# Altium footprint library ABM8G-25.000MHZ-B4Y-T.PcbLib: 1 footprints
Each footprint in its own frame and in the unit in brackets; x right, y up, seen from the top. Pads: shape width x height; smd on the part's side, far side on the other; paste and mask are expansions set on the pad; w line width, h text height; cw(c..) or ccw(c..) is an arc to the next point about the centre after c.
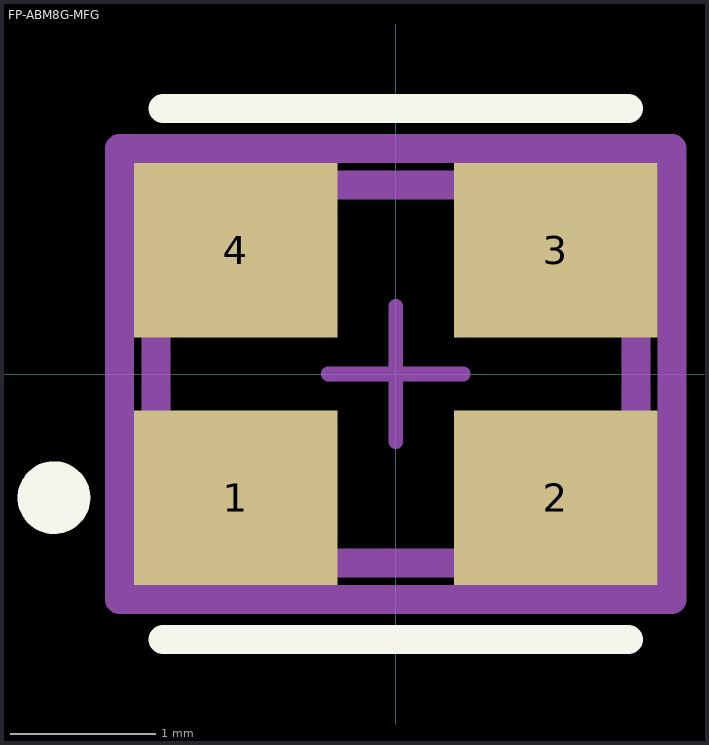
[diagram p0: the footprint, top view; thin cyan lines are the x and y axes]

## FP-ABM8G-MFG [mm]
pads (4):
  rect 1.4x1.2 smd paste+0 mask+0: 1(-1.1,-0.85) 2(1.1,-0.85) 3(1.1,0.85) 4(-1.1,0.85)
Top Overlay:
  circle w0.25: c-2.35,-0.85 r0.125
  lines w0.2: -1.6,-1.825 1.6,-1.825 ; -1.6,1.825 1.6,1.825
Top Assembly:
  lines w0.2: -1.9,-1.55 -1.9,1.55 1.9,1.55 1.9,-1.55 -1.9,-1.55
  text ".Designator" at 0,0.188 h1
Top 3D Body:
  lines w0.2: -1.65,-1.3 -1.65,1.3 1.65,1.3 1.65,-1.3 -1.65,-1.3
Top Courtyard:
  lines w0.2: -1.9,-1.55 -1.9,1.55 1.9,1.55 1.9,-1.55 -1.9,-1.55
Top Component Center:
  lines w0.1: -0.465,0 0.465,0 ; 0,-0.465 0,0.465
3D body "Crys_Abracon_ABM8G-12_288MHZ-18-D2Y-T3_eec.STEP": height 0.25, standoff 0, extent -1.9,-1.55 1.9,1.55